# Altium footprint library TC7W74FK,LF.PcbLib: 1 footprints
Each footprint in its own frame and in the unit in brackets; x right, y up, seen from the top. Pads: shape width x height; smd on the part's side, far side on the other; paste and mask are expansions set on the pad; w line width, h text height; cw(c..) or ccw(c..) is an arc to the next point about the centre after c.
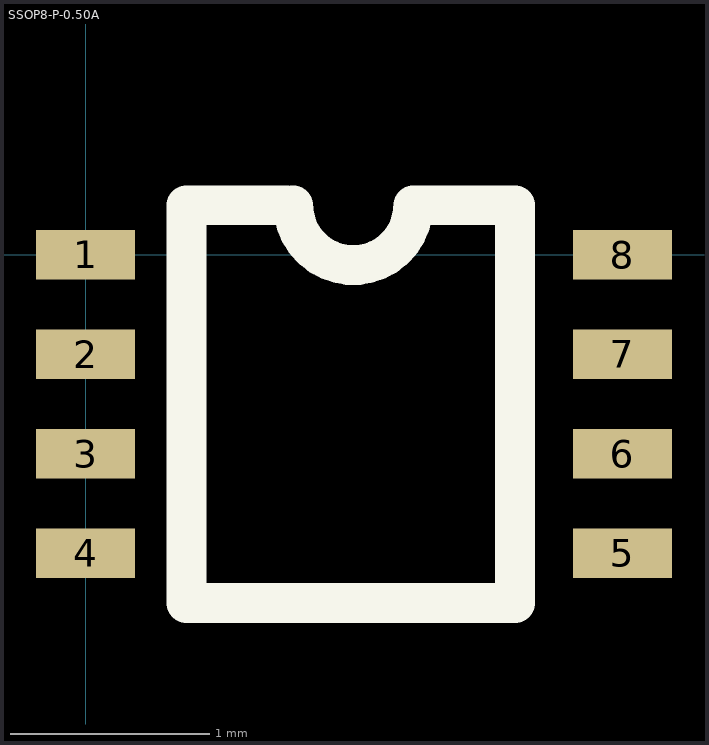
[diagram p0: the footprint, top view; thin cyan lines are the x and y axes]

## SSOP8-P-0.50A [mm]
pads (8):
  rect 0.5x0.25 smd: 1(0,0) 2(0,-0.5) 3(0,-1) 4(0,-1.5) 5(2.7,-1.5) 6(2.7,-1) 7(2.7,-0.5) 8(2.7,0)
Top Overlay:
  lines w0.2: 1.009,0.25 0.508,0.25 0.508,-1.75 2.159,-1.75 2.159,0.25 1.67,0.25 ; 1.044,0.25 ccw(c1.346,0.25) 1.648,0.25
3D body "8-VFSOP.STEP": height 0.9, standoff 0, extent -0.254,-1.803 2.946,0.297